# Altium footprint library ATMEGA328-PU.PcbLib: 2 footprints
Each footprint in its own frame and in the unit in brackets; x right, y up, seen from the top. Pads: shape width x height; smd on the part's side, far side on the other; paste and mask are expansions set on the pad; w line width, h text height; cw(c..) or ccw(c..) is an arc to the next point about the centre after c.
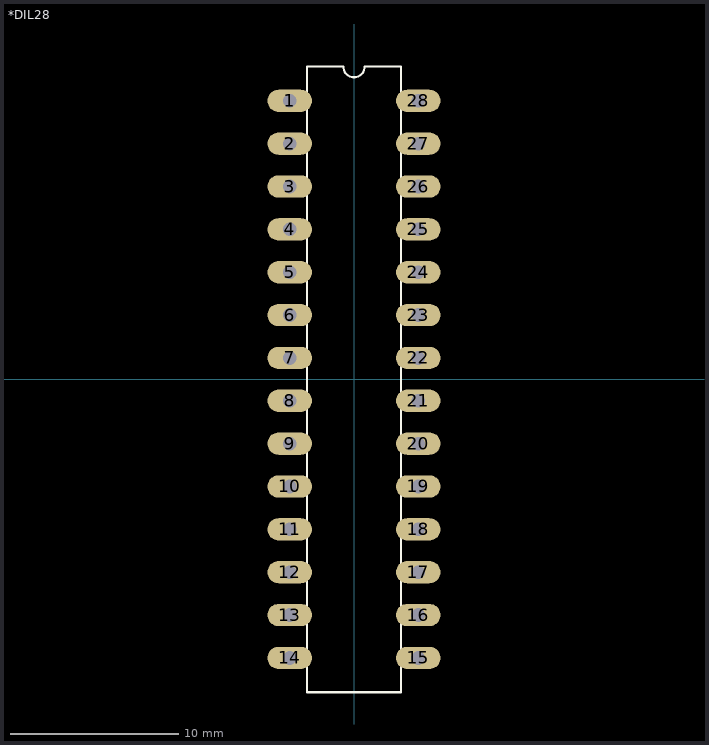
[diagram p0: the footprints below, top view; thin cyan lines are the x and y axes]

## *DIL28 [mil]
pads (28):
  oval 104x52 hole 32: 1(-150,650) 2(-150,550) 3(-150,450) 4(-150,350) 5(-150,250) 6(-150,150) 7(-150,50) 8(-150,-50) 9(-150,-150) 10(-150,-250) 11(-150,-350) 12(-150,-450) 13(-150,-550) 14(-150,-650) 15(150,-650) 16(150,-550) 17(150,-450) 18(150,-350) 19(150,-250) 20(150,-150) 21(150,-50) 22(150,50) 23(150,150) 24(150,250) 25(150,350) 26(150,450) 27(150,550) 28(150,650)
Top Overlay:
  lines w5: -110,-730 -110,730 -25,730 ccw(c0,730) 25,730 110,730 110,-730 -110,-730
3D body: height 314.29, standoff 0, extent 15,250 15,250
3D body: height 314.29, standoff 0, extent -315,-105 -315,-105
3D body: height 10, standoff 0, extent -110,-730 110,730

## PCBComponent_1 [mil]